# EAGLE library part DIN-5 (library EurorackModularParts)
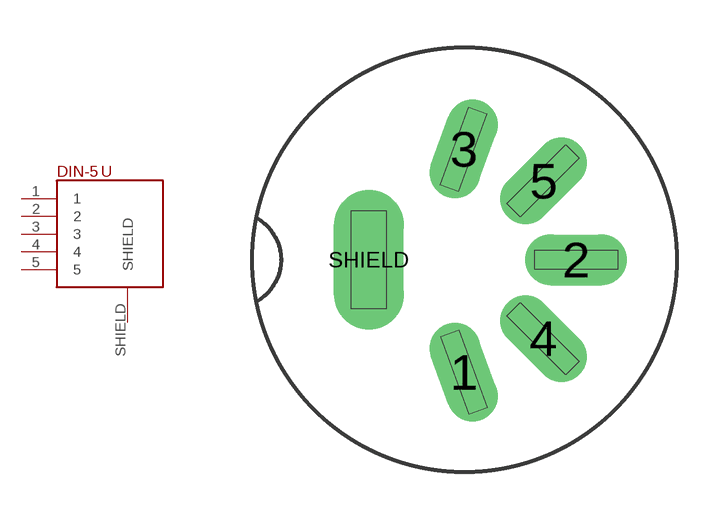
[diagram p15: symbol with the pads of DIN-5-VERTICAL; footprint DIN-5-VERTICAL]

Designator prefix -

## DIN-5  [DIN-5-VERTICAL]
1  1
2  2
3  3
4  4
5  5
SHIELD  SHIELD

## Footprint DIN-5-VERTICAL (pad centres in mm)
drill 0.7 pad 1.6 long: 1 -0.025,-3.525; 2 3.5,0; 3 -0.025,3.475; 4 2.475,-2.475; 5 2.475,2.475
drill 0.7 pad 2.2 long: SHIELD -3,0